# Altium integrated library VBPW34S.IntLib: 1 symbol
Pins are listed as number, name and electrical type; pins without a type are passive.

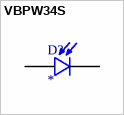
[diagram p0: symbol VBPW34S]

## VBPW34S
designator D?
Photodiode 940nm 100ns 130Â° 2-SMD, Gull Wing; MF: Vishay; MP: VBPW34S; SnapEDA_Link: https://www.snapeda.com/parts/VBPW34S/Vishay+Semiconductor+Opto+Division/view-part/?ref=snap; Package: Package; Value: *; Check_prices: https://www.snapeda.com/parts/VBPW34S/Vishay+Semiconductor+Opto+Division/view-part/?ref=eda
footprint XDCR_VBPW34S
pins: A, K C